# Altium footprint library CONNECTOR.PCBLIB: 232 footprints (part 6 of 15)
Each footprint in its own frame and in the unit in brackets; x right, y up, seen from the top. Pads: shape width x height; smd on the part's side, far side on the other; paste and mask are expansions set on the pad; w line width, h text height; cw(c..) or ccw(c..) is an arc to the next point about the centre after c.
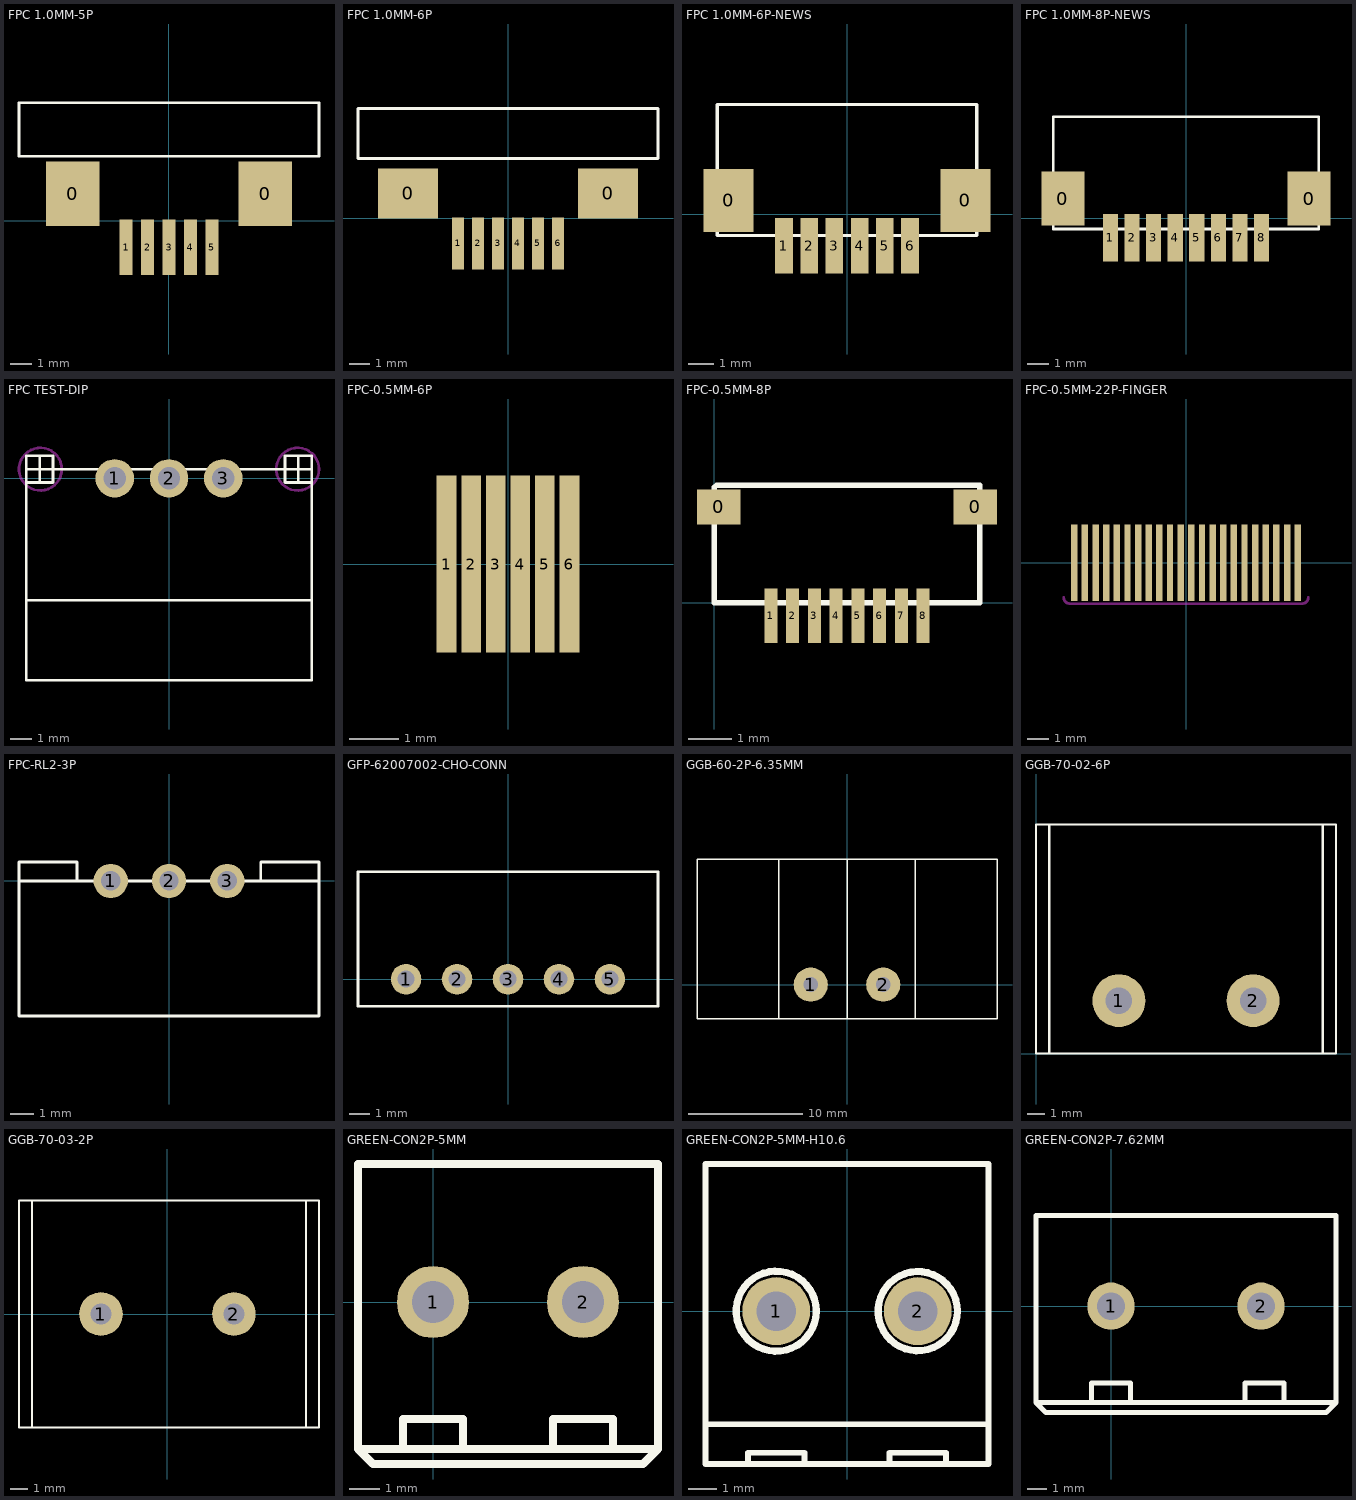
[diagram p5: the footprints below, top view; thin cyan lines are the x and y axes]

## FPC 1.0MM-5P [mm]
pads (7):
  rect 2.5x3 smd: 0(-4.5,1.25) 0(4.5,1.25)
  rect 0.6x2.6 smd: 1(-2,-1.25) 2(-1,-1.25) 3(0,-1.25) 4(1,-1.25) 5(2,-1.25)
TopOverlay:
  lines w0.127: -7,3 7,3 7,5.5 -7,5.5 -7,3

## FPC 1.0MM-6P [mm]
pads (8):
  rect 3x2.5 smd: 0(-5,1.25) 0(5,1.25)
  rect 0.6x2.6 smd: 1(-2.5,-1.25) 2(-1.5,-1.25) 3(-0.5,-1.25) 4(0.5,-1.25) 5(1.5,-1.25) 6(2.5,-1.25)
TopOverlay:
  lines w0.127: -7.5,3 -7.5,5.5 7.5,5.5 7.5,3 -7.5,3

## FPC 1.0MM-6P-NEWS [mm] "FPC 1.0MM-6P-NEWS"
pads (8):
  rect 2x2.5 smd: 0(-4.7,0.55) 0(4.7,0.55)
  rect 0.7x2.2 smd: 1(-2.5,-1.25) 2(-1.5,-1.25) 3(-0.5,-1.25) 4(0.5,-1.25) 5(1.5,-1.25) 6(2.5,-1.25)
TopOverlay:
  lines w0.127: -5.15,-0.85 -5.15,4.35 5.15,4.35 5.15,-0.85 -5.15,-0.85

## FPC 1.0MM-8P-NEWS [mm] "FPC 1.0MM-8P-NEWS"
pads (10):
  rect 2x2.5 smd: 0(-5.7,0.9) 0(5.7,0.9)
  rect 0.7x2.2 smd: 1(-3.5,-0.9) 2(-2.5,-0.9) 3(-1.5,-0.9) 4(-0.5,-0.9) 5(0.5,-0.9) 6(1.5,-0.9) 7(2.5,-0.9) 8(3.5,-0.9)
TopOverlay:
  lines w0.127: -6.15,-0.5 -6.15,4.7 6.15,4.7 6.15,-0.5 -6.15,-0.5

## FPC TEST-DIP [mm]
pads (3):
  round 1.8 hole 1.05: 1(-2.54,0) 2(0,0) 3(2.54,0)
TopOverlay:
  lines w0.127: -6.675,0.43 -5.425,0.43 ; -6.65,-5.7 6.65,-5.7 ; -6.05,-0.195 -6.05,1.055 ; -6.05,0.43 6.05,0.43 ; 5.425,0.43 6.675,0.43 ; 6.05,-0.195 6.05,1.055 ; -6.675,1.055 -6.675,-0.195 -5.425,-0.195 -5.425,1.055 -6.675,1.055 ; -6.675,1.055 -6.675,-9.445 6.675,-9.445 6.675,1.055 ; 6.675,1.055 6.675,-0.195 5.425,-0.195 5.425,1.055 6.675,1.055
KeepOutLayer:
  circle w0.127: c-6.02,0.43 r1
  circle w0.127: c6.02,0.43 r1

## FPC-0.5MM-6P [mm] "FPC-0.5MM-6P"
pads (6):
  rect 0.4x3.6 smd mask+0.05: 1(-1.25,0) 2(-0.75,0) 3(-0.25,0) 4(0.25,0) 5(0.75,0) 6(1.25,0)

## FPC-0.5MM-8P [mm] "FPC-0.5MM-8P"
pads (10):
  rect 1x0.8 smd mask+0.05: 0(0.1,2.2) 0(6,2.2)
  rect 0.3x1.25 smd mask+0.05: 1(1.3,-0.3) 2(1.8,-0.3) 3(2.3,-0.3) 4(2.8,-0.3) 5(3.3,-0.3) 6(3.8,-0.3) 7(4.3,-0.3) 8(4.8,-0.3)
TopOverlay:
  lines w0.127: 0,2.65 0,0 6.1,0 6.1,2.7 0.05,2.7

## FPC-0.5MM-22P-FINGER [mm] "FPC 0.5MM-22P-FINGER"
pads (22):
  rect 0.3x3.6 smd mask+0.05: 1(-5.25,0) 2(-4.75,0) 3(-4.25,0) 4(-3.75,0) 5(-3.25,0) 6(-2.75,0) 7(-2.25,0) 8(-1.75,0) 9(-1.25,0) 10(-0.75,0) 11(-0.25,0) 12(0.25,0) 13(0.75,0) 14(1.25,0) 15(1.75,0) 16(2.25,0) 17(2.75,0) 18(3.25,0) 19(3.75,0) 20(4.25,0) 21(4.75,0) 22(5.25,0)
KeepOutLayer:
  lines w0.127: -5.75,-1.625 ccw(c-5.45,-1.625) -5.45,-1.925 ; 5.45,-1.925 ccw(c5.45,-1.625) 5.75,-1.625
KeepOutLayer:
  lines w0.127: -5.45,-1.925 5.45,-1.925

## FPC-RL2-3P [mm]
pads (3):
  round 1.5 hole 0.85: 1(-2.54,0) 2(0,0) 3(2.54,0)
TopOverlay:
  lines w0.127: -6.54,0 6.54,0 ; -4.02,0.02 -4.02,0.82 -6.54,0.82 -6.54,-5.88 6.54,-5.88 6.54,0.82 4.02,0.82 4,0.8 4,0

## GFP-62007002-CHO-CONN [mil]
pads (5):
  round 60 hole 33.46: 1(-200,0) 2(-100,0) 3(0,0) 4(100,0) 5(200,0)
TopOverlay:
  lines w5: -294.29,-53.15 294.29,-53.15 294.29,210.63 -294.29,210.63 -294.29,-53.15

## GGB-60-2P-6.35MM [mm]
pads (2):
  round 3 hole 1.3: 1(-3.175,0) 2(3.175,0)
TopOverlay:
  lines w0.127: -6,-3 -6,11 ; 0,-3 0,11 ; 6,-3 6,11 ; -13.15,-3 13.15,-3 13.15,11 -13.15,11 -13.15,-3

## GGB-70-02-6P [mm]
pads (2):
  round 3 hole 1.5: 1(4.7,3) 2(12.32,3)
TopOverlay:
  lines w0.127: 0.75,0 0.75,13 ; 16.27,0 16.27,13 ; 0,0 17.02,0 17.02,13 0,13 0,0

## GGB-70-03-2P [mm]
pads (2):
  round 2.5 hole 1.2: 1(-3.81,0) 2(3.81,0)
TopOverlay:
  lines w0.127: -7.76,-6.5 -7.76,6.5 ; 7.94,-6.5 7.94,6.5 ; -8.51,-6.5 -8.51,6.5 8.69,6.5 8.69,-6.5 -8.51,-6.5

## GREEN-CON2P-5MM [mm]
pads (2):
  round 2.4 hole 1.4: 1(0,0) 2(5,0)
TopOverlay:
  lines w0.254: -1,-4.9 -1,-3.9 1,-3.9 1,-4.9 ; 4,-4.9 4,-3.9 6,-3.9 6,-4.9 ; -2.5,-4.9 -2.5,4.6 7.5,4.6 7.5,-4.9 ; -2.5,-4.9 -2,-5.4 7,-5.4 7.5,-4.9 ; -2.5,-4.9 7.5,-4.9

## GREEN-CON2P-5MM-H10.6 [mm]
pads (2):
  round 2.4 hole 1.4: 1(-2.5,0) 2(2.5,0)
TopOverlay:
  circle w0.254: c-2.5,0 r1.414
  circle w0.254: c2.5,0 r1.4
  lines w0.2: -5,-4 5,-4 ; -3.5,-5.4 -3.5,-5 -1.5,-5 -1.5,-5.4 ; 1.5,-5.4 1.5,-5 3.5,-5 3.5,-5.4 ; -5,-5.4 -5,5.2 5,5.2 5,-5.4 -5,-5.4

## GREEN-CON2P-7.62MM [mm]
pads (2):
  round 2.4 hole 1.4: 1(0,0) 2(7.62,0)
TopOverlay:
  lines w0.254: -1,-4.9 -1,-3.9 1,-3.9 1,-4.9 ; 6.8,-4.9 6.8,-3.9 8.8,-3.9 8.8,-4.9 ; -3.81,-4.9 11.43,-4.9 ; -3.81,-4.9 -3.31,-5.4 10.93,-5.4 11.43,-4.9 ; -3.81,-4.9 -3.81,4.6 11.43,4.6 11.43,-4.9